# Altium schematic symbol library Schlib1.SchLib: 4 symbols
Pins are listed as number, name and electrical type; pins without a type are passive.

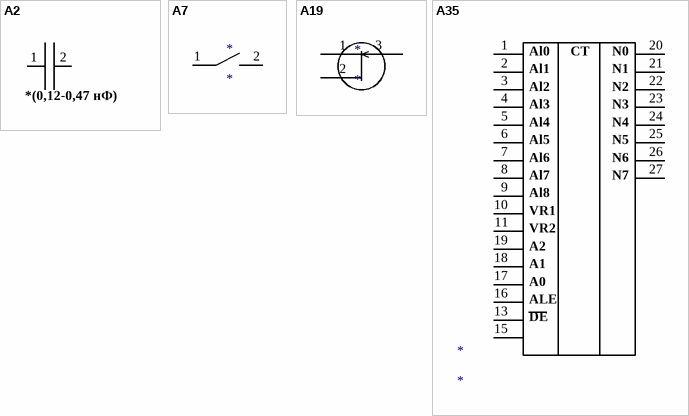
[diagram p0: symbols A2 to A35]

## A2
designator *C?  Parameter 1: *(0,12-0,47 нФ)  (hidden comment: *)
footprint KM6A-M47
pins: 1, 2

## A7
designator *
footprint T1
pins: 1, 2

## A19
designator *
footprint КП303
pins: 1, 2, 3

## A35
designator *
footprint K572ПВ4
pins: 1, 2, 3, 4, 5, 6, 7, 8, 9, 10, 11, 13, 15, 16, 17, 18, 19, 20, 21, 22, 23, 24, 25, 26, 27
text: Al0; CT; N0; Al1; N1; Al2; N2; Al3; N3; Al4; N4; Al5; N5; Al6; N6; Al7; N7; Al8; VR1; VR2; A2; A1; A0; ALE; DE